# EAGLE library part WE-STST_4532 (library WE-STST)
WE-STST Super Tiny Signal Transformer Characteristics Super small size 1.5 kV isolation voltage 350 µH OCL as per IEEE 802.3 Operating temperature: -40 °C up to +105 °C Applications Ethernet 10/100/1000 Base-T Ethernet 2.5/5G and 10G Base-T Single Pair Ethernet Ultrasonic sensors g.fast <https://www.we-online.com/components/media/o156816v209%20Family_WE-STST.jpg> Details see: www.we-online.com/en/components/products/WE-STST <www.we-online.com/catalog/WE-STST/?utm_source=eagle_model&utm_medium=description_link&utm_campaign=eisos_eagle> Updated by Ella Wu 2023-12-25 2023(C) Wurth Elektronik
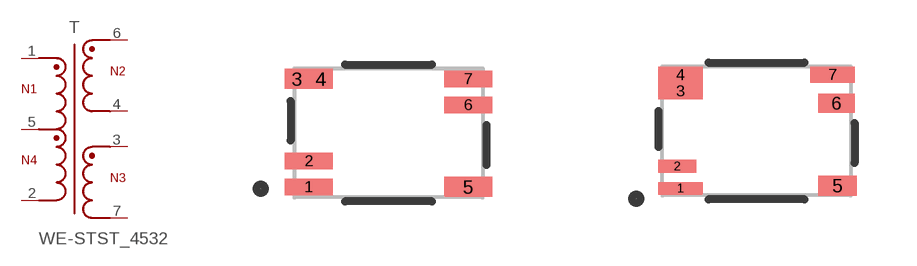
[diagram p0: symbol with the pads of WE-STST_74930000; footprints WE-STST_74930000, WE-STST_749302010]

Designator prefix T

## WE-STST_4532_74930000 (DATA-RATE: 10/100/1000 Base-T, 10/100 Base-T1; DATASHEET-URL: https://www.we-online.com/catalog/datasheet/74930000.pdf; L: 350uH; MOUNT: SMT; PART-NUMBER: 74930000; TURNS-RATIO: 1:1; VT: 1500 V (RMS))  [WE-STST_74930000]
1  1  pas
2  2  pas
3  3  pas
4  4  pas
5  5  pas
6  6  pas
7  7  pas

## WE-STST_4532_749302010 (DATASHEET-URL: https://www.we-online.com/catalog/datasheet/749302010.pdf; L: 300uH; MOUNT: SMT; PART-NUMBER: 749302010; TURNS-RATIO: 1:4.5:4.5:1; VT: 400 V (RMS))  [WE-STST_749302010]
Pads as for WE-STST_74930000

## WE-STST_4532_749302011 (DATASHEET-URL: https://www.we-online.com/catalog/datasheet/749302011.pdf; L: 2000uH; MOUNT: SMT; PART-NUMBER: 749302011; TURNS-RATIO: 1:4.5:4.5:1; VT: 400 V (RMS))  [WE-STST_749302011]
Pads as for WE-STST_74930000

## WE-STST_4532_74930100 (DATA-RATE: 10G Base-T, 1000 Base-T1; DATASHEET-URL: https://www.we-online.com/catalog/datasheet/74930100.pdf; L: 120uH; MOUNT: SMT; PART-NUMBER: 74930100; TURNS-RATIO: 1:1; VT: 1500 V (RMS))  [WE-STST_74930100]
Pads as for WE-STST_74930000

## WE-STST_4532_74930000_PODL (DATA-RATE: 10/100/1000 Base-T, 10/100 Base-T1; DATASHEET-URL: https://www.we-online.com/catalog/datasheet/74930000.pdf; L: 350uH; MOUNT: SMT; PART-NUMBER: 74930000; TURNS-RATIO: 1:1; VT: 1500 V (RMS))  [WE-STST_74930000_PODL]
Pads as for WE-STST_74930000

## WE-STST_4532_74930100_PODL (DATA-RATE: 10G Base-T, 1000 Base-T1; DATASHEET-URL: https://www.we-online.com/catalog/datasheet/74930100.pdf; L: 120uH; MOUNT: SMT; PART-NUMBER: 74930100; TURNS-RATIO: 1:1; VT: 1500 V (RMS))  [WE-STST_74930100_PODL]
Pads as for WE-STST_74930000

## WE-STST_4532_74930030 (DATA-RATE: 10/100/1GBase-T; DATASHEET-URL: https://www.we-online.com/catalog/datasheet/74930030.pdf; L: 350uH; MOUNT: SMT; PART-NUMBER: 74930030; TURNS-RATIO: 1:1; VT: 1500 V (RMS))  [WE-STST_74930030]
Pads as for WE-STST_74930000

## WE-STST_4532_74930130 (DATA-RATE: 10/100/1G/10GBase-T; DATASHEET-URL: https://www.we-online.com/catalog/datasheet/74930130.pdf; L: 110uH; MOUNT: SMT; PART-NUMBER: 74930130; TURNS-RATIO: 1:1; VT: 1500 V (RMS))  [WE-STST_74930130]
Pads as for WE-STST_74930000

## WE-STST_4532_74930120 (DATA-RATE: 10/100/1G/10GBase-T; DATASHEET-URL: https://www.we-online.com/catalog/datasheet/74930120.pdf; L: 110uH; MOUNT: SMT; PART-NUMBER: 74930120; TURNS-RATIO: 1:1; VT: 1500 V (RMS))  [WE-STST_74930120]
Pads as for WE-STST_74930000

## Footprint WE-STST_74930000 (pad centres in mm)
WE-STST Super Tiny Signal Transformer 10/100/1000 Base-T, 10/100 Base-T1 Max Height = 2.9 mm
smd 1.2 x 0.41: 1 -1.99,-1.35; 2 -1.99,-0.7; 6 1.99,0.7; 7 1.99,1.35
smd 0.6 x 0.5: 3 -2.29,1.35; 4 -1.69,1.35
smd 1.2 x 0.5: 5 1.99,-1.35

## Footprint WE-STST_749302010 (pad centres in mm)
WE-STST Super Tiny Signal Transformer 10/100/1000 Base-T Max Height = 2.9 mm
smd 1.1 x 0.32: 1 -1.9,-1.44
smd 0.95 x 0.33: 2 -1.98,-0.88
smd 1.1 x 0.405: 3 -1.9,0.998; 4 -1.9,1.403
smd 0.95 x 0.5: 5 2.025,-1.365
smd 0.9 x 0.47: 6 2,0.69
smd 1.1 x 0.4: 7 1.9,1.41

## Footprint WE-STST_749302011 (pad centres in mm)
WE-STST Super Tiny Signal Transformer Max Height = 2.9 mm
smd 1.1 x 0.32: 1 -1.9,-1.44
smd 0.95 x 0.33: 2 -1.98,-0.88
smd 1.1 x 0.405: 3 -1.9,0.998; 4 -1.9,1.403
smd 0.95 x 0.5: 5 2.025,-1.365
smd 0.9 x 0.47: 6 2,0.69
smd 1.1 x 0.4: 7 1.9,1.41

## Footprint WE-STST_74930100 (pad centres in mm)
WE-STST Super Tiny Signal Transformer 10/100/1000 Base-T, 10/100 Base-T1 Max Height = 2.9 mm
smd 1.2 x 0.41: 1 -1.99,-1.35; 2 -1.99,-0.7; 6 1.99,0.7; 7 1.99,1.35
smd 0.6 x 0.5: 3 -2.29,1.35; 4 -1.69,1.35
smd 1.2 x 0.5: 5 1.99,-1.35

## Footprint WE-STST_74930000_PODL (pad centres in mm)
WE-STST Super Tiny Signal Transformer This package is suggested for Power over Data Lines (PoDL) and 10Base-T1 applications. 10/100/1000 Base-T, 10/100 Base-T1 Max Height = 2.9 mm
smd 1.2 x 0.41: 1 -1.99,-1.35; 2 -1.99,-0.7; 6 1.99,0.7; 7 1.99,1.35
smd 0.2 x 0.2: 3 -2.39,1.35; 4 -1.59,1.35
smd 1.2 x 0.5: 5 1.99,-1.35

## Footprint WE-STST_74930100_PODL (pad centres in mm)
WE-STST Super Tiny Signal Transformer This package is suggested for Power over Data Lines (PoDL) and 10Base-T1 applications. 10G Base-T, 1000 Base-T1 Max Height = 2.9 mm
smd 1.2 x 0.41: 1 -1.99,-1.35; 2 -1.99,-0.7; 6 1.99,0.7; 7 1.99,1.35
smd 0.2 x 0.2: 3 -2.39,1.35; 4 -1.59,1.35
smd 1.2 x 0.5: 5 1.99,-1.35

## Footprint WE-STST_74930030 (pad centres in mm)
WE-STST Super Tiny Signal Transformer 10/100/1GBase-T Max Height = 2.9 mm
smd 1.2 x 0.41: 1 -1.99,-1.35; 2 -1.99,-0.7; 6 1.99,0.7; 7 1.99,1.35
smd 0.6 x 0.5: 3 -2.29,1.35; 4 -1.69,1.35
smd 1.2 x 0.5: 5 1.99,-1.35

## Footprint WE-STST_74930130 (pad centres in mm)
WE-STST Super Tiny Signal Transformer 10/100/1G/10GBase-T Max Height = 2.9 mm
smd 1.2 x 0.41: 1 -1.99,-1.35; 2 -1.99,-0.7; 6 1.99,0.7; 7 1.99,1.35
smd 0.6 x 0.5: 3 -2.29,1.35; 4 -1.69,1.35
smd 1.2 x 0.5: 5 1.99,-1.35

## Footprint WE-STST_74930120 (pad centres in mm)
WE-STST Super Tiny Signal Transformer 10/100/1G/10GBase-T Max Height = 2.9 mm
smd 1.2 x 0.41: 1 -1.99,-1.35; 2 -1.99,-0.7; 6 1.99,0.7; 7 1.99,1.35
smd 0.6 x 0.5: 3 -2.29,1.35; 4 -1.69,1.35
smd 1.2 x 0.5: 5 1.99,-1.35